# Altium schematic symbol library A3930KJPTR-T.Schlib: 1 symbol
Pins are listed as number, name and electrical type; pins without a type are passive.

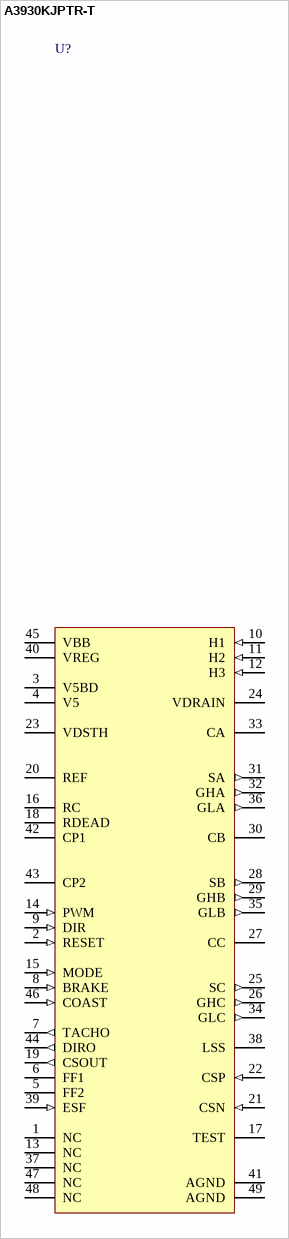
[diagram p0: symbol A3930KJPTR-T]

## A3930KJPTR-T
designator U?
pins: 1 NC, 2 RESET (in), 3 V5BD (power), 4 V5 (power), 5 FF2 (oc), 6 FF1 (oc), 7 TACHO (out), 8 BRAKE (in), 9 DIR (in), 10 H1 (in), 11 H2 (in), 12 H3 (in), 13 NC, 14 PWM (in), 15 MODE (in), 16 RC, 17 TEST, 18 RDEAD, 19 CSOUT (out), 20 REF, 21 CSN (in), 22 CSP (in), 23 VDSTH (power), 24 VDRAIN (power), 25 SC (out), 26 GHC (out), 27 CC, 28 SB (out), 29 GHB (out), 30 CB, 31 SA (out), 32 GHA (out), 33 CA, 34 GLC (out), 35 GLB (out), 36 GLA (out), 37 NC, 38 LSS, 39 ESF (in), 40 VREG (power), 41 AGND (power), 42 CP1, 43 CP2, 44 DIRO (out), 45 VBB (power), 46 COAST (in), 47 NC, 48 NC, 49 AGND (power)